# EAGLE library part 4094 (library #PaJa_30_scr)
IO - 8bit. posuvny registr
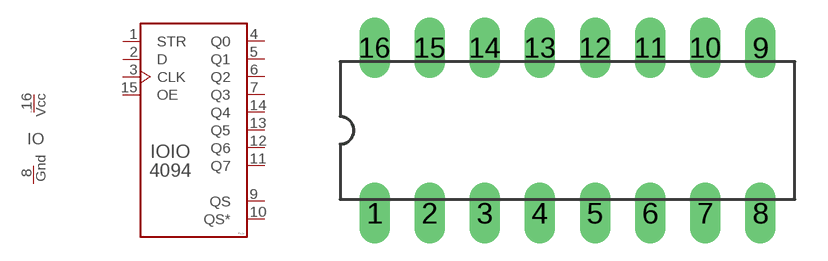
[diagram p9: symbol with the pads of DIL16; footprint DIL16]

Designator prefix IO; gates IO=IO_4094 N=POWER

## 4094  [DIL16]
1  IO:STR  in
2  IO:D  in
3  IO:CLK  in
4  IO:Q0  out
5  IO:Q1  out
6  IO:Q2  out
7  IO:Q3  out
8  N:GND  pwr
9  IO:QS  out
10  IO:QS*  out
11  IO:Q7  out
12  IO:Q6  out
13  IO:Q5  out
14  IO:Q4  out
15  IO:OE  in
16  N:VCC  pwr

## Footprint DIL16 (pad centres in mm)
drill 0.813 pad 1.4 long: 1 -8.89,-3.81; 2 -6.35,-3.81; 3 -3.81,-3.81; 4 -1.27,-3.81; 5 1.27,-3.81; 6 3.81,-3.81; 7 6.35,-3.81; 8 8.89,-3.81; 9 8.89,3.81; 10 6.35,3.81; 11 3.81,3.81; 12 1.27,3.81; 13 -1.27,3.81; 14 -3.81,3.81; 15 -6.35,3.81; 16 -8.89,3.81